# Altium footprint library LED.PcbLib: 20 footprints (part 2 of 2)
Each footprint in its own frame and in the unit in brackets; x right, y up, seen from the top. Pads: shape width x height; smd on the part's side, far side on the other; paste and mask are expansions set on the pad; w line width, h text height; cw(c..) or ccw(c..) is an arc to the next point about the centre after c.
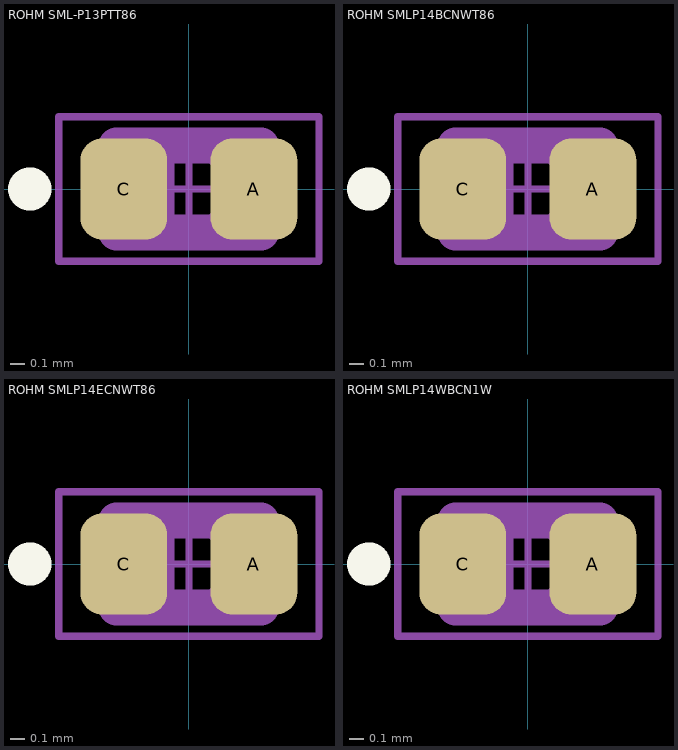
[diagram p1: the footprints below, top view; thin cyan lines are the x and y axes]

## ROHM SML-P13PTT86 [mm] "ROHM LED 0402 Top View Green (Code P) 1.0x0.6x0.25"
height 0.25
pads (2):
  rrect50% 0.6x0.7 smd: A(0.45,0) C(-0.45,0)
Top Overlay:
  circle w0.15: c-1.1,0 r0.075
Top Assembly:
  rectangle: -0.5,-0.3 -0.1,0.3
  lines w0.25: -0.5,-0.3 -0.5,0.3 0.5,0.3 0.5,-0.3 -0.5,-0.3
  text ".Designator" at -3.378,1.061 h1.5
Top Courtyard:
  circle w0.05: c0,0 r0.25
  lines w0.05: -0.35,0 0.35,0 ; 0,-0.35 0,0.35 ; -0.9,-0.5 -0.9,0.5 0.9,0.5 0.9,-0.5 -0.9,-0.5
3D body "SML-P13PT(R)_Green.STEP": height 0.2, standoff 0, extent -0.5,-0.3 0.5,0.3

## ROHM SMLP14BCNWT86 [mm] "ROHM LED 0402 Top View Blue (Code B) 1.0x0.6x0.25"
height 0.25
pads (2):
  rrect50% 0.6x0.7 smd: A(0.45,0) C(-0.45,0)
Top Overlay:
  circle w0.15: c-1.1,0 r0.075
Top Assembly:
  rectangle: -0.5,-0.3 -0.1,0.3
  lines w0.25: -0.5,-0.3 -0.5,0.3 0.5,0.3 0.5,-0.3 -0.5,-0.3
  text ".Designator" at -3.378,1.061 h1.5
Top Courtyard:
  circle w0.05: c0,0 r0.25
  lines w0.05: -0.35,0 0.35,0 ; 0,-0.35 0,0.35 ; -0.9,-0.5 -0.9,0.5 0.9,0.5 0.9,-0.5 -0.9,-0.5
3D body "SMLP14BCNW_Blue.STEP": height 0.2, standoff 0, extent -0.5,-0.3 0.5,0.3

## ROHM SMLP14ECNWT86 [mm] "ROHM LED 0402 Top View Blue-Green (Code E) 1.0x0.6x0.25"
height 0.25
pads (2):
  rrect50% 0.6x0.7 smd: A(0.45,0) C(-0.45,0)
Top Overlay:
  circle w0.15: c-1.1,0 r0.075
Top Assembly:
  rectangle: -0.5,-0.3 -0.1,0.3
  lines w0.25: -0.5,-0.3 0.5,-0.3 0.5,0.3 -0.5,0.3 -0.5,-0.3
  text ".Designator" at -3.378,1.061 h1.5
Top Courtyard:
  circle w0.05: c0,0 r0.25
  lines w0.05: -0.35,0 0.35,0 ; 0,-0.35 0,0.35 ; -0.9,-0.5 0.9,-0.5 0.9,0.5 -0.9,0.5 -0.9,-0.5
3D body "SMLP14ECNW_HighGreen.STEP": height 0.2, standoff 0, extent -0.5,-0.3 0.5,0.3

## ROHM SMLP14WBCN1W [mm] "ROHM LED 0402 Top View White (Code WB) 1.0x0.6x0.25"
height 0.25
pads (2):
  rrect50% 0.6x0.7 smd: A(0.45,0) C(-0.45,0)
Top Overlay:
  circle w0.15: c-1.1,0 r0.075
Top Assembly:
  rectangle: -0.5,-0.3 -0.1,0.3
  lines w0.25: -0.5,-0.3 0.5,-0.3 0.5,0.3 -0.5,0.3 -0.5,-0.3
  text ".Designator" at -3.378,1.061 h1.5
Top Courtyard:
  circle w0.05: c0,0 r0.25
  lines w0.05: -0.35,0 0.35,0 ; 0,-0.35 0,0.35 ; -0.9,-0.5 0.9,-0.5 0.9,0.5 -0.9,0.5 -0.9,-0.5
3D body "SMLP14WBCN1W_White.STEP": height 0.2, standoff 0, extent -0.5,-0.3 0.5,0.3